# Altium footprint library DIP - Peg Leads.PcbLib: 71 footprints (part 4 of 5)
Each footprint in its own frame and in the unit in brackets; x right, y up, seen from the top. Pads: shape width x height; smd on the part's side, far side on the other; paste and mask are expansions set on the pad; w line width, h text height; cw(c..) or ccw(c..) is an arc to the next point about the centre after c.
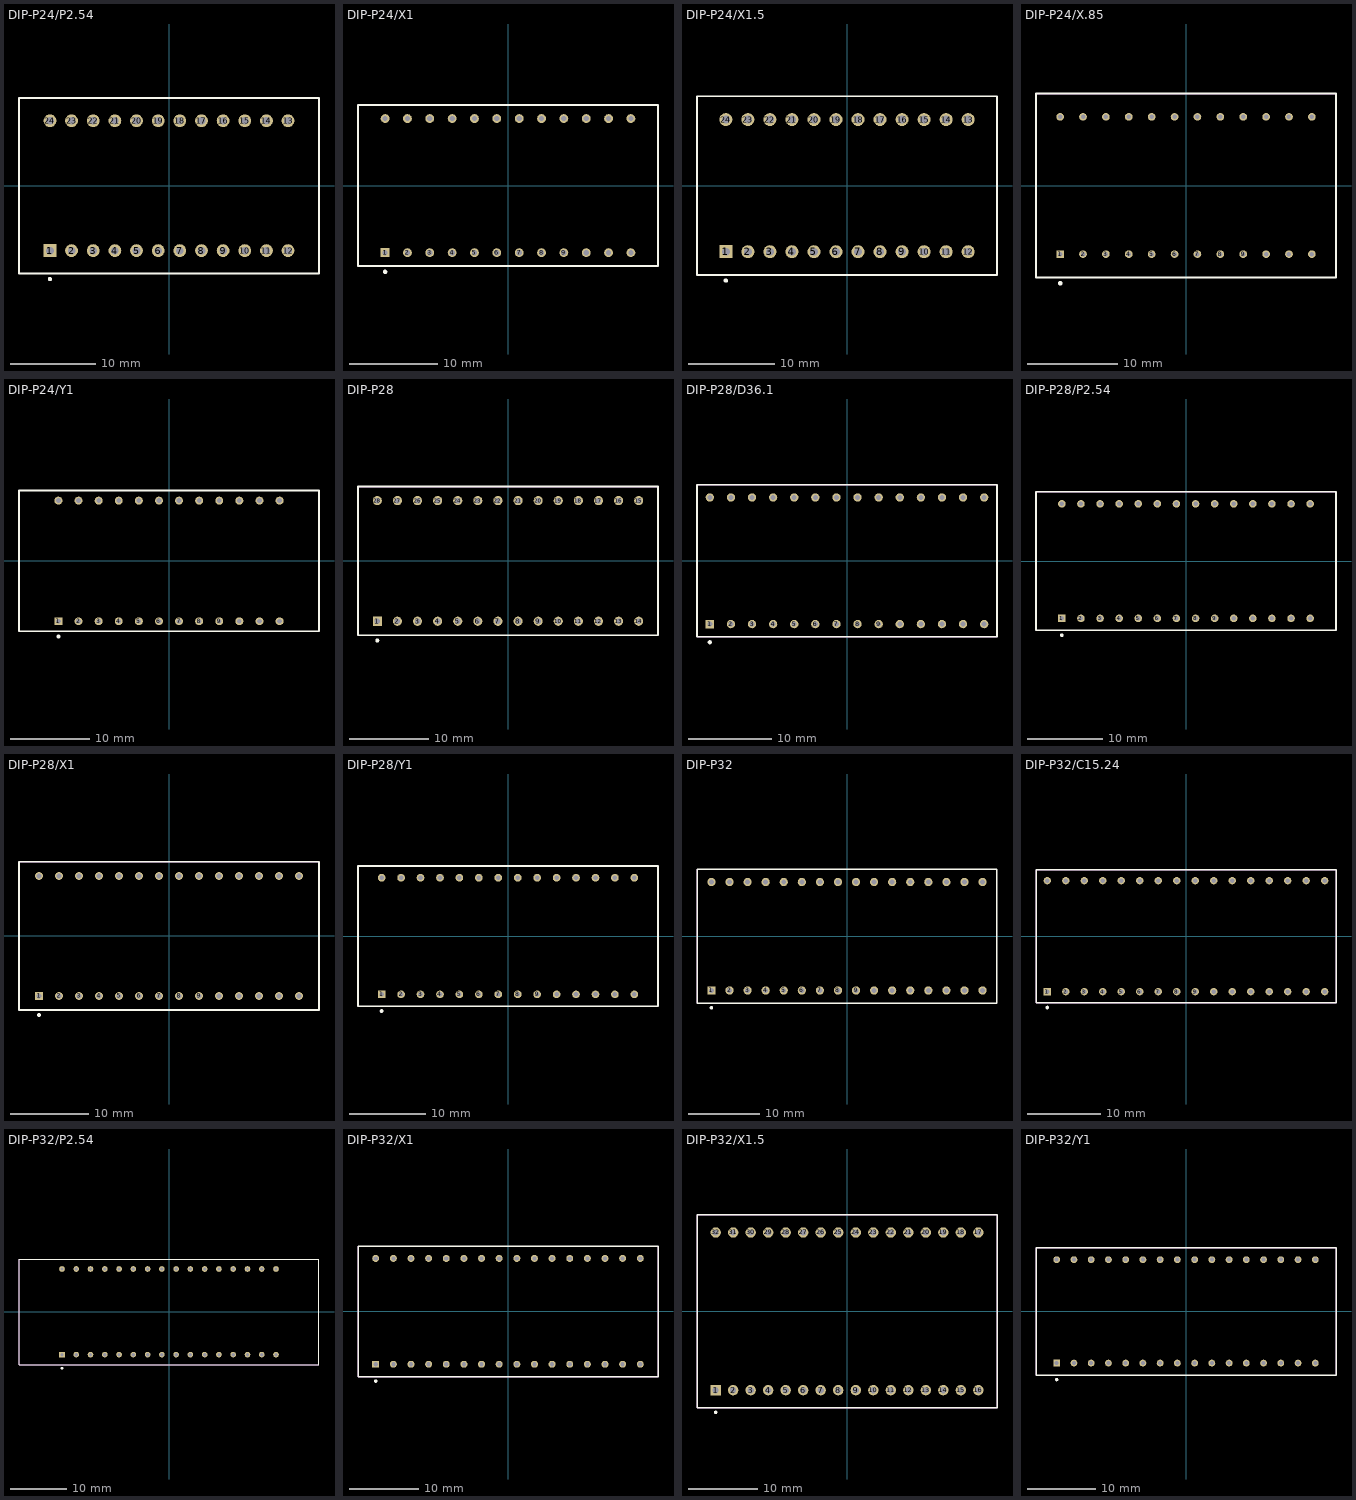
[diagram p3: the footprints below, top view; thin cyan lines are the x and y axes]

## DIP-P24/P2.54 [mm] "DIP; 24 Round Pins; Row Space 15.24 mm; Pitch 2.54 mm"
height 6.35
pads (24):
  rect 1.5x1.5 hole 0.9: 1(-13.97,-7.62)
  round 1.5 hole 0.9: 2(-11.43,-7.62) 3(-8.89,-7.62) 4(-6.35,-7.62) 5(-3.81,-7.62) 6(-1.27,-7.62) 7(1.27,-7.62) 8(3.81,-7.62) 9(6.35,-7.62) 10(8.89,-7.62) 11(11.43,-7.62) 12(13.97,-7.62) 13(13.97,7.62) 14(11.43,7.62) 15(8.89,7.62) 16(6.35,7.62) 17(3.81,7.62) 18(1.27,7.62) 19(-1.27,7.62) 20(-3.81,7.62) 21(-6.35,7.62) 22(-8.89,7.62) 23(-11.43,7.62) 24(-13.97,7.62)
Top Overlay:
  circle w0.25: c-13.97,-10.95 r0.125
  lines w0.2: -17.6,-10.3 -17.6,-0.635 -17.6,10.3 17.6,10.3 17.6,-10.3 -17.6,-10.3
Mechanical 13:
  lines w0.1: -17.6,-10.3 17.6,-10.3 17.6,10.3 -17.6,10.3 -17.6,-10.3
3D body: height 6.35, standoff 0, extent -17.6,-10.3 17.6,10.3

## DIP-P24/X1 [mm] "DIP; 24 Rectangular Pins; Row Space 15.24 mm; Pitch 2.54 mm"
height 10.54
pads (24):
  rect 1x1 hole 0.6: 1(-13.97,-7.62)
  round 1 hole 0.6: 2(-11.43,-7.62) 3(-8.89,-7.62) 4(-6.35,-7.62) 5(-3.81,-7.62) 6(-1.27,-7.62) 7(1.27,-7.62) 8(3.81,-7.62) 9(6.35,-7.62) 10(8.89,-7.62) 11(11.43,-7.62) 12(13.97,-7.62) 13(13.97,7.62) 14(11.43,7.62) 15(8.89,7.62) 16(6.35,7.62) 17(3.81,7.62) 18(1.27,7.62) 19(-1.27,7.62) 20(-3.81,7.62) 21(-6.35,7.62) 22(-8.89,7.62) 23(-11.43,7.62) 24(-13.97,7.62)
Top Overlay:
  circle w0.25: c-13.97,-9.8 r0.125
  lines w0.2: -17.05,-9.15 17.05,-9.15 17.05,9.15 -17.05,9.15 -17.05,-9.15
Mechanical 13:
  lines w0.1: -17.05,-9.15 -17.05,9.15 17.05,9.15 17.05,-9.15 -17.05,-9.15
3D body: height 10.54, standoff 0, extent -17.05,-9.15 17.05,9.15

## DIP-P24/X1.5 [mm] "DIP; 24 Round Pins; Row Space 15.24 mm; Pitch 2.54 mm"
height 5.33
pads (24):
  rect 1.5x1.5 hole 0.9: 1(-13.97,-7.62)
  round 1.5 hole 0.9: 2(-11.43,-7.62) 3(-8.89,-7.62) 4(-6.35,-7.62) 5(-3.81,-7.62) 6(-1.27,-7.62) 7(1.27,-7.62) 8(3.81,-7.62) 9(6.35,-7.62) 10(8.89,-7.62) 11(11.43,-7.62) 12(13.97,-7.62) 13(13.97,7.62) 14(11.43,7.62) 15(8.89,7.62) 16(6.35,7.62) 17(3.81,7.62) 18(1.27,7.62) 19(-1.27,7.62) 20(-3.81,7.62) 21(-6.35,7.62) 22(-8.89,7.62) 23(-11.43,7.62) 24(-13.97,7.62)
Top Overlay:
  circle w0.25: c-13.97,-10.95 r0.125
  lines w0.2: -17.3,-10.3 -17.3,10.3 17.3,10.3 17.3,-10.3 -17.3,-10.3
Mechanical 13:
  lines w0.1: -17.3,-10.3 -17.3,10.3 17.3,10.3 17.3,-10.3 -17.3,-10.3
3D body: height 5.33, standoff 0, extent -17.3,-10.3 17.3,10.3

## DIP-P24/X.85 [mm] "DIP; 24 Rectangular Pins; Row Space 15.24 mm; Pitch 2.54 mm"
height 5.26
pads (24):
  rect 0.85x0.85 hole 0.5: 1(-13.97,-7.62)
  round 0.85 hole 0.5: 2(-11.43,-7.62) 3(-8.89,-7.62) 4(-6.35,-7.62) 5(-3.81,-7.62) 6(-1.27,-7.62) 7(1.27,-7.62) 8(3.81,-7.62) 9(6.35,-7.62) 10(8.89,-7.62) 11(11.43,-7.62) 12(13.97,-7.62) 13(13.97,7.62) 14(11.43,7.62) 15(8.89,7.62) 16(6.35,7.62) 17(3.81,7.62) 18(1.27,7.62) 19(-1.27,7.62) 20(-3.81,7.62) 21(-6.35,7.62) 22(-8.89,7.62) 23(-11.43,7.62) 24(-13.97,7.62)
Top Overlay:
  circle w0.25: c-13.97,-10.85 r0.125
  lines w0.2: -16.65,-10.2 -16.65,-0.635 -16.65,10.2 16.65,10.2 16.65,-10.2 -16.65,-10.2
Mechanical 13:
  lines w0.1: -16.65,-10.2 -16.65,10.2 16.65,10.2 16.65,-10.2 -16.65,-10.2
3D body: height 5.26, standoff 0, extent -16.65,-10.2 16.65,10.2

## DIP-P24/Y1 [mm] "DIP; 24 Rectangular Pins; Row Space 15.24 mm; Pitch 2.54 mm"
height 8.5
pads (24):
  rect 1x1 hole 0.6: 1(-13.97,-7.62)
  round 1 hole 0.6: 2(-11.43,-7.62) 3(-8.89,-7.62) 4(-6.35,-7.62) 5(-3.81,-7.62) 6(-1.27,-7.62) 7(1.27,-7.62) 8(3.81,-7.62) 9(6.35,-7.62) 10(8.89,-7.62) 11(11.43,-7.62) 12(13.97,-7.62) 13(13.97,7.62) 14(11.43,7.62) 15(8.89,7.62) 16(6.35,7.62) 17(3.81,7.62) 18(1.27,7.62) 19(-1.27,7.62) 20(-3.81,7.62) 21(-6.35,7.62) 22(-8.89,7.62) 23(-11.43,7.62) 24(-13.97,7.62)
Top Overlay:
  circle w0.25: c-13.97,-9.55 r0.125
  lines w0.2: -18.95,-8.9 18.95,-8.9 18.95,8.9 -18.95,8.9 -18.95,-8.9
Mechanical 13:
  lines w0.1: -18.95,-8.9 -18.95,8.9 18.95,8.9 18.95,-8.9 -18.95,-8.9
3D body: height 8.5, standoff 0, extent -18.95,-8.9 18.95,8.9

## DIP-P28 [mm] "DIP; 28 Rectangular Pins; Row Space 15.24 mm; Pitch 2.54 mm"
height 9.27
pads (28):
  rect 1.15x1.15 hole 0.7: 1(-16.51,-7.62)
  round 1.15 hole 0.7: 2(-13.97,-7.62) 3(-11.43,-7.62) 4(-8.89,-7.62) 5(-6.35,-7.62) 6(-3.81,-7.62) 7(-1.27,-7.62) 8(1.27,-7.62) 9(3.81,-7.62) 10(6.35,-7.62) 11(8.89,-7.62) 12(11.43,-7.62) 13(13.97,-7.62) 14(16.51,-7.62) 15(16.51,7.62) 16(13.97,7.62) 17(11.43,7.62) 18(8.89,7.62) 19(6.35,7.62) 20(3.81,7.62) 21(1.27,7.62) 22(-1.27,7.62) 23(-3.81,7.62) 24(-6.35,7.62) 25(-8.89,7.62) 26(-11.43,7.62) 27(-13.97,7.62) 28(-16.51,7.62)
Top Overlay:
  circle w0.25: c-16.51,-10.05 r0.125
  lines w0.2: -18.95,-9.4 18.95,-9.4 18.95,9.4 -18.95,9.4 -18.95,-9.4
Mechanical 13:
  lines w0.1: -18.95,-9.4 -18.95,9.4 18.95,9.4 18.95,-9.4 -18.95,-9.4
3D body: height 9.27, standoff 0, extent -18.95,-9.4 18.95,9.4

## DIP-P28/D36.1 [mm] "DIP; 28 Rectangular Pins; Row Space 15.24 mm; Pitch 2.54 mm"
height 11.94
pads (28):
  rect 1x1 hole 0.6: 1(-16.51,-7.62)
  round 1 hole 0.6: 2(-13.97,-7.62) 3(-11.43,-7.62) 4(-8.89,-7.62) 5(-6.35,-7.62) 6(-3.81,-7.62) 7(-1.27,-7.62) 8(1.27,-7.62) 9(3.81,-7.62) 10(6.35,-7.62) 11(8.89,-7.62) 12(11.43,-7.62) 13(13.97,-7.62) 14(16.51,-7.62) 15(16.51,7.62) 16(13.97,7.62) 17(11.43,7.62) 18(8.89,7.62) 19(6.35,7.62) 20(3.81,7.62) 21(1.27,7.62) 22(-1.27,7.62) 23(-3.81,7.62) 24(-6.35,7.62) 25(-8.89,7.62) 26(-11.43,7.62) 27(-13.97,7.62) 28(-16.51,7.62)
Top Overlay:
  circle w0.25: c-16.51,-9.8 r0.125
  lines w0.2: -18.05,-9.15 -18.05,9.15 18.05,9.15 18.05,-9.15 -18.05,-9.15
Mechanical 13:
  lines w0.1: -18.05,-9.15 -18.05,9.15 18.05,9.15 18.05,-9.15 -18.05,-9.15
3D body: height 11.94, standoff 0, extent -18.05,-9.15 18.05,9.15

## DIP-P28/P2.54 [mm] "DIP; 28 Rectangular Pins; Row Space 15.24 mm; Pitch 2.54 mm"
height 9.65
pads (28):
  rect 1x1 hole 0.6: 1(-16.51,-7.62)
  round 1 hole 0.6: 2(-13.97,-7.62) 3(-11.43,-7.62) 4(-8.89,-7.62) 5(-6.35,-7.62) 6(-3.81,-7.62) 7(-1.27,-7.62) 8(1.27,-7.62) 9(3.81,-7.62) 10(6.35,-7.62) 11(8.89,-7.62) 12(11.43,-7.62) 13(13.97,-7.62) 14(16.51,-7.62) 15(16.51,7.62) 16(13.97,7.62) 17(11.43,7.62) 18(8.89,7.62) 19(6.35,7.62) 20(3.81,7.62) 21(1.27,7.62) 22(-1.27,7.62) 23(-3.81,7.62) 24(-6.35,7.62) 25(-8.89,7.62) 26(-11.43,7.62) 27(-13.97,7.62) 28(-16.51,7.62)
Top Overlay:
  circle w0.25: c-16.51,-9.85 r0.125
  lines w0.2: -19.95,-9.2 -19.95,9.2 19.95,9.2 19.95,-9.2 -19.95,-9.2
Mechanical 13:
  lines w0.1: -19.95,-9.2 19.95,-9.2 19.95,9.2 -19.95,9.2 -19.95,-9.2
3D body: height 9.65, standoff 0, extent -19.95,-9.2 19.95,9.2

## DIP-P28/X1 [mm] "DIP; 28 Rectangular Pins; Row Space 15.24 mm; Pitch 2.54 mm"
height 9.52
pads (28):
  rect 1x1 hole 0.6: 1(-16.51,-7.62)
  round 1 hole 0.6: 2(-13.97,-7.62) 3(-11.43,-7.62) 4(-8.89,-7.62) 5(-6.35,-7.62) 6(-3.81,-7.62) 7(-1.27,-7.62) 8(1.27,-7.62) 9(3.81,-7.62) 10(6.35,-7.62) 11(8.89,-7.62) 12(11.43,-7.62) 13(13.97,-7.62) 14(16.51,-7.62) 15(16.51,7.62) 16(13.97,7.62) 17(11.43,7.62) 18(8.89,7.62) 19(6.35,7.62) 20(3.81,7.62) 21(1.27,7.62) 22(-1.27,7.62) 23(-3.81,7.62) 24(-6.35,7.62) 25(-8.89,7.62) 26(-11.43,7.62) 27(-13.97,7.62) 28(-16.51,7.62)
Top Overlay:
  circle w0.25: c-16.51,-10.05 r0.125
  lines w0.2: -19.05,-9.4 19.05,-9.4 19.05,9.4 -19.05,9.4 -19.05,-9.4
Mechanical 13:
  lines w0.1: -19.05,-9.4 19.05,-9.4 19.05,9.4 -19.05,9.4 -19.05,-9.4
3D body: height 9.52, standoff 0, extent -19.05,-9.4 19.05,9.4

## DIP-P28/Y1 [mm] "DIP; 28 Rectangular Pins; Row Space 15.24 mm; Pitch 2.54 mm"
height 10.54
pads (28):
  rect 1x1 hole 0.6: 1(-16.51,-7.62)
  round 1 hole 0.6: 2(-13.97,-7.62) 3(-11.43,-7.62) 4(-8.89,-7.62) 5(-6.35,-7.62) 6(-3.81,-7.62) 7(-1.27,-7.62) 8(1.27,-7.62) 9(3.81,-7.62) 10(6.35,-7.62) 11(8.89,-7.62) 12(11.43,-7.62) 13(13.97,-7.62) 14(16.51,-7.62) 15(16.51,7.62) 16(13.97,7.62) 17(11.43,7.62) 18(8.89,7.62) 19(6.35,7.62) 20(3.81,7.62) 21(1.27,7.62) 22(-1.27,7.62) 23(-3.81,7.62) 24(-6.35,7.62) 25(-8.89,7.62) 26(-11.43,7.62) 27(-13.97,7.62) 28(-16.51,7.62)
Top Overlay:
  circle w0.25: c-16.51,-9.8 r0.125
  lines w0.2: -19.6,-9.15 -19.6,9.15 19.6,9.15 19.6,-9.15 -19.6,-9.15
Mechanical 13:
  lines w0.1: -19.6,-9.15 19.6,-9.15 19.6,9.15 -19.6,9.15 -19.6,-9.15
3D body: height 10.54, standoff 0, extent -19.6,-9.15 19.6,9.15

## DIP-P32 [mm] "DIP; 32 Rectangular Pins; Row Space 15.24 mm; Pitch 2.54 mm"
height 9.27
pads (32):
  rect 1.15x1.15 hole 0.7: 1(-19.05,-7.62)
  round 1.15 hole 0.7: 2(-16.51,-7.62) 3(-13.97,-7.62) 4(-11.43,-7.62) 5(-8.89,-7.62) 6(-6.35,-7.62) 7(-3.81,-7.62) 8(-1.27,-7.62) 9(1.27,-7.62) 10(3.81,-7.62) 11(6.35,-7.62) 12(8.89,-7.62) 13(11.43,-7.62) 14(13.97,-7.62) 15(16.51,-7.62) 16(19.05,-7.62) 17(19.05,7.62) 18(16.51,7.62) 19(13.97,7.62) 20(11.43,7.62) 21(8.89,7.62) 22(6.35,7.62) 23(3.81,7.62) 24(1.27,7.62) 25(-1.27,7.62) 26(-3.81,7.62) 27(-6.35,7.62) 28(-8.89,7.62) 29(-11.43,7.62) 30(-13.97,7.62) 31(-16.51,7.62) 32(-19.05,7.62)
Top Overlay:
  circle w0.25: c-19.05,-10.05 r0.125
  lines w0.2: -21.082,-9.4 21.082,-9.4 21.082,9.4 -21.082,9.4 -21.082,-9.4
Mechanical 13:
  lines w0.1: -21.082,-9.4 21.082,-9.4 21.082,9.4 -21.082,9.4 -21.082,-9.4
3D body: height 9.27, standoff 0, extent -21.082,-9.4 21.082,9.4

## DIP-P32/C15.24 [mm] "DIP; 32 Rectangular Pins; Row Space 15.24 mm; Pitch 2.54 mm"
height 11.94
pads (32):
  rect 1x1 hole 0.6: 1(-19.05,-7.62)
  round 1 hole 0.6: 2(-16.51,-7.62) 3(-13.97,-7.62) 4(-11.43,-7.62) 5(-8.89,-7.62) 6(-6.35,-7.62) 7(-3.81,-7.62) 8(-1.27,-7.62) 9(1.27,-7.62) 10(3.81,-7.62) 11(6.35,-7.62) 12(8.89,-7.62) 13(11.43,-7.62) 14(13.97,-7.62) 15(16.51,-7.62) 16(19.05,-7.62) 17(19.05,7.62) 18(16.51,7.62) 19(13.97,7.62) 20(11.43,7.62) 21(8.89,7.62) 22(6.35,7.62) 23(3.81,7.62) 24(1.27,7.62) 25(-1.27,7.62) 26(-3.81,7.62) 27(-6.35,7.62) 28(-8.89,7.62) 29(-11.43,7.62) 30(-13.97,7.62) 31(-16.51,7.62) 32(-19.05,7.62)
Top Overlay:
  circle w0.25: c-19.05,-9.8 r0.125
  lines w0.2: -20.6,-9.15 20.6,-9.15 20.6,9.15 -20.6,9.15 -20.6,-9.15
Mechanical 13:
  lines w0.1: -20.6,-9.15 20.6,-9.15 20.6,9.15 -20.6,9.15 -20.6,-9.15
3D body: height 11.94, standoff 0, extent -20.6,-9.15 20.6,9.15

## DIP-P32/P2.54 [mm] "DIP; 32 Rectangular Pins; Row Space 15.24 mm; Pitch 2.54 mm"
height 10.29
pads (32):
  rect 1x1 hole 0.6: 1(-19.05,-7.62)
  round 1 hole 0.6: 2(-16.51,-7.62) 3(-13.97,-7.62) 4(-11.43,-7.62) 5(-8.89,-7.62) 6(-6.35,-7.62) 7(-3.81,-7.62) 8(-1.27,-7.62) 9(1.27,-7.62) 10(3.81,-7.62) 11(6.35,-7.62) 12(8.89,-7.62) 13(11.43,-7.62) 14(13.97,-7.62) 15(16.51,-7.62) 16(19.05,-7.62) 17(19.05,7.62) 18(16.51,7.62) 19(13.97,7.62) 20(11.43,7.62) 21(8.89,7.62) 22(6.35,7.62) 23(3.81,7.62) 24(1.27,7.62) 25(-1.27,7.62) 26(-3.81,7.62) 27(-6.35,7.62) 28(-8.89,7.62) 29(-11.43,7.62) 30(-13.97,7.62) 31(-16.51,7.62) 32(-19.05,7.62)
Top Overlay:
  circle w0.25: c-19.05,-10.05 r0.125
  lines w0.2: -26.7,-9.4 -26.7,9.4 26.7,9.4 26.7,-9.4 -26.7,-9.4
Mechanical 13:
  lines w0.1: -26.7,-9.4 26.7,-9.4 26.7,9.4 -26.7,9.4 -26.7,-9.4
3D body: height 10.29, standoff 0, extent -26.7,-9.4 26.7,9.4

## DIP-P32/X1 [mm] "DIP; 32 Rectangular Pins; Row Space 15.24 mm; Pitch 2.54 mm"
height 9.52
pads (32):
  rect 1x1 hole 0.6: 1(-19.05,-7.62)
  round 1 hole 0.6: 2(-16.51,-7.62) 3(-13.97,-7.62) 4(-11.43,-7.62) 5(-8.89,-7.62) 6(-6.35,-7.62) 7(-3.81,-7.62) 8(-1.27,-7.62) 9(1.27,-7.62) 10(3.81,-7.62) 11(6.35,-7.62) 12(8.89,-7.62) 13(11.43,-7.62) 14(13.97,-7.62) 15(16.51,-7.62) 16(19.05,-7.62) 17(19.05,7.62) 18(16.51,7.62) 19(13.97,7.62) 20(11.43,7.62) 21(8.89,7.62) 22(6.35,7.62) 23(3.81,7.62) 24(1.27,7.62) 25(-1.27,7.62) 26(-3.81,7.62) 27(-6.35,7.62) 28(-8.89,7.62) 29(-11.43,7.62) 30(-13.97,7.62) 31(-16.51,7.62) 32(-19.05,7.62)
Top Overlay:
  circle w0.25: c-19.05,-10.05 r0.125
  lines w0.2: -21.6,-9.4 -21.6,9.4 21.6,9.4 21.6,-9.4 -21.6,-9.4
Mechanical 13:
  lines w0.1: -21.6,-9.4 21.6,-9.4 21.6,9.4 -21.6,9.4 -21.6,-9.4
3D body: height 9.52, standoff 0, extent -21.6,-9.4 21.6,9.4

## DIP-P32/X1.5 [mm] "DIP; 32 Round Pins; Row Space 22.86 mm; Pitch 2.54 mm"
height 5.33
pads (32):
  rect 1.5x1.5 hole 0.9: 1(-19.05,-11.43)
  round 1.5 hole 0.9: 2(-16.51,-11.43) 3(-13.97,-11.43) 4(-11.43,-11.43) 5(-8.89,-11.43) 6(-6.35,-11.43) 7(-3.81,-11.43) 8(-1.27,-11.43) 9(1.27,-11.43) 10(3.81,-11.43) 11(6.35,-11.43) 12(8.89,-11.43) 13(11.43,-11.43) 14(13.97,-11.43) 15(16.51,-11.43) 16(19.05,-11.43) 17(19.05,11.43) 18(16.51,11.43) 19(13.97,11.43) 20(11.43,11.43) 21(8.89,11.43) 22(6.35,11.43) 23(3.81,11.43) 24(1.27,11.43) 25(-1.27,11.43) 26(-3.81,11.43) 27(-6.35,11.43) 28(-8.89,11.43) 29(-11.43,11.43) 30(-13.97,11.43) 31(-16.51,11.43) 32(-19.05,11.43)
Top Overlay:
  circle w0.25: c-19.05,-14.65 r0.125
  lines w0.2: -21.75,-14 21.75,-14 21.75,14 -21.75,14 -21.75,-14
Mechanical 13:
  lines w0.1: -21.75,-14 21.75,-14 21.75,14 -21.75,14 -21.75,-14
3D body: height 5.33, standoff 0, extent -21.75,-14 21.75,14

## DIP-P32/Y1 [mm] "DIP; 32 Rectangular Pins; Row Space 15.24 mm; Pitch 2.54 mm"
height 10.54
pads (32):
  rect 1x1 hole 0.6: 1(-19.05,-7.62)
  round 1 hole 0.6: 2(-16.51,-7.62) 3(-13.97,-7.62) 4(-11.43,-7.62) 5(-8.89,-7.62) 6(-6.35,-7.62) 7(-3.81,-7.62) 8(-1.27,-7.62) 9(1.27,-7.62) 10(3.81,-7.62) 11(6.35,-7.62) 12(8.89,-7.62) 13(11.43,-7.62) 14(13.97,-7.62) 15(16.51,-7.62) 16(19.05,-7.62) 17(19.05,7.62) 18(16.51,7.62) 19(13.97,7.62) 20(11.43,7.62) 21(8.89,7.62) 22(6.35,7.62) 23(3.81,7.62) 24(1.27,7.62) 25(-1.27,7.62) 26(-3.81,7.62) 27(-6.35,7.62) 28(-8.89,7.62) 29(-11.43,7.62) 30(-13.97,7.62) 31(-16.51,7.62) 32(-19.05,7.62)
Top Overlay:
  circle w0.25: c-19.05,-10.05 r0.125
  lines w0.2: -22.1,-9.4 -22.1,9.4 22.1,9.4 22.1,-9.4 -22.1,-9.4
Mechanical 13:
  lines w0.1: -22.1,-9.4 -22.1,9.4 22.1,9.4 22.1,-9.4 -22.1,-9.4
3D body: height 10.54, standoff 0, extent -22.1,-9.4 22.1,9.4